# Altium integrated library CAP ALUM 470UF.IntLib: 1 symbol
Pins are listed as number, name and electrical type; pins without a type are passive.

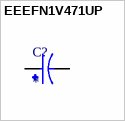
[diagram p0: symbol EEEFN1V471UP]

## EEEFN1V471UP
designator C?
CAP ALUM 470UF 20% 35V SMD; MF: Panasonic Electronic Components; MP: EEE-FN1V471UP; Check_prices: https://www.snapeda.com/parts/EEE-FN1V471UP/Panasonic/view-part/6178317/?ref=eda; SnapEDA_Link: https://www.snapeda.com/parts/EEE-FN1V471UP/Panasonic/view-part/6178317/?ref=snap; Availability: In Stock; Package: RADIAL-2 Panasonic; Price: None; Value: *
footprint CAP_EEEFN1V471UP
pins: 1, 2